# EAGLE library part DS1094L (library NewSDR)
Maxim Multiphase Spread-Spectrum EconOscillato
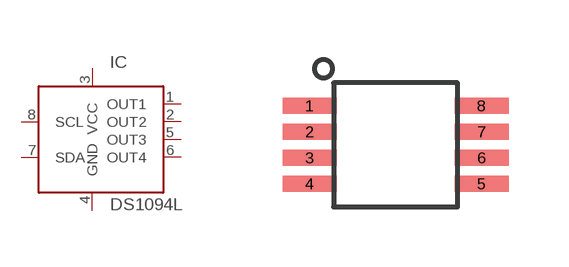
[diagram p185: symbol with the pads of SO8_UMAX; footprint SO8_UMAX]

Designator prefix IC

## DS1094L  [SO8_UMAX]
1  OUT1  out
2  OUT2  out
3  VCC  pwr
4  GND  pwr
5  OUT3  out
6  OUT4  out
7  SDA  in
8  SCL  in

## Footprint SO8_UMAX (pad centres in mm)
smd 1.35 x 0.4: 1 -2.15,0.975; 2 -2.15,0.325; 3 -2.15,-0.325; 4 -2.15,-0.975; 5 2.15,-0.975; 6 2.15,-0.325; 7 2.15,0.325; 8 2.15,0.975